# EAGLE library part BLUEFRUIT_LE_FRIEND_SPI (library TT-Breakouts)
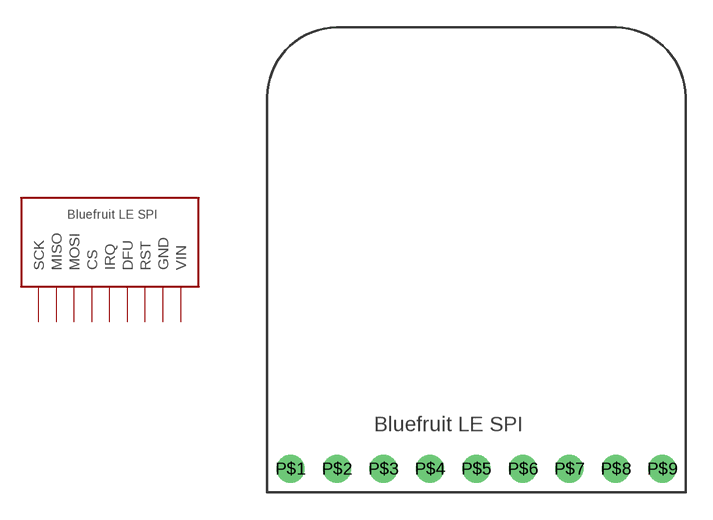
[diagram p1: symbol with the pads of BLUEFRUIT_LE_FRIEND_SPI; footprint BLUEFRUIT_LE_FRIEND_SPI]

Designator prefix -

## BLUEFRUIT_LE_FRIEND_SPI  [BLUEFRUIT_LE_FRIEND_SPI]
P$1  SCK
P$2  MISO
P$3  MOSI
P$4  CS
P$5  IRQ
P$6  DFU
P$7  RST
P$8  GND
P$9  VIN

## Footprint BLUEFRUIT_LE_FRIEND_SPI (pad centres in mm)
drill 1.016: P$1 -10.16,-11.43; P$2 -7.62,-11.43; P$3 -5.08,-11.43; P$4 -2.54,-11.43; P$5 0,-11.43; P$6 2.54,-11.43; P$7 5.08,-11.43; P$8 7.62,-11.43; P$9 10.16,-11.43